# Altium schematic symbol library AOD4130.SchLib: 1 symbol
Pins are listed as number, name and electrical type; pins without a type are passive.

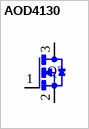
[diagram p0: symbol AOD4130]

## AOD4130
designator Q?
=Description
pins: 1 G, 2 S, 3 D